# Altium schematic symbol library Header 2X18.SchLib: 1 symbol
Pins are listed as number, name and electrical type; pins without a type are passive.

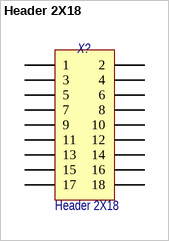
[diagram p0: symbol Header 2X18]

## Header 2X18
designator X?
Header, 18-Pin, Dual row; Потребление, Вт: 0.0; Назначение: Header, 18-Pin, Dual row; Наименование: Header 2X18
footprint PBD-18-narrow
pins: 1, 2, 3, 4, 5, 6, 7, 8, 9, 10, 11, 12, 13, 14, 15, 16, 17, 18